# Altium footprint library SOT65P210X110-5N.PCBLIB: 1 footprints
Each footprint in its own frame and in the unit in brackets; x right, y up, seen from the top. Pads: shape width x height; smd on the part's side, far side on the other; paste and mask are expansions set on the pad; w line width, h text height; cw(c..) or ccw(c..) is an arc to the next point about the centre after c.
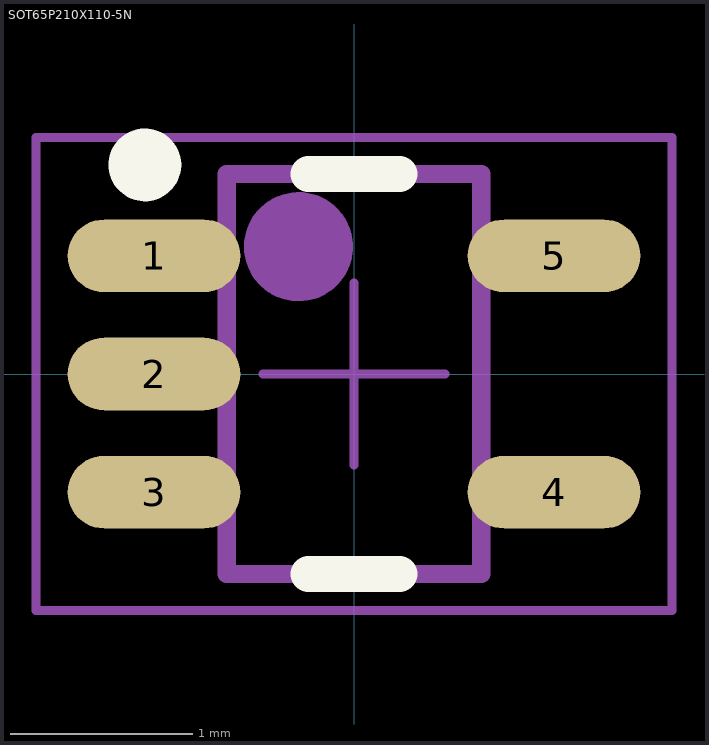
[diagram p0: the footprint, top view; thin cyan lines are the x and y axes]

## SOT65P210X110-5N [mm]
height 1.1
pads (5):
  oval 0.95x0.4 smd: 1(-1.1,0.65) 2(-1.1,0) 3(-1.1,-0.65) 4(1.1,-0.65) 5(1.1,0.65)
Top Overlay:
  circle w0.2: c-1.15,1.15 r0.1
  lines w0.2: -0.25,-1.1 0.25,-1.1 ; -0.25,1.1 0.25,1.1
Top Assembly:
  circle w0.3: c-0.305,0.7 r0.15
  lines w0.1: -0.7,-1.1 -0.7,1.1 0.7,1.1 0.7,-1.1 -0.7,-1.1
Top Courtyard:
  lines w0.05: -1.75,-1.3 -1.75,1.3 1.75,1.3 1.75,-1.3 -1.75,-1.3
Top Designator:
  text ".Designator" at -4.4,1.7 h1
Top Component Center:
  lines w0.05: -0.5,0 0.5,0 ; 0,-0.5 0,0.5
3D body "User Library-SOT353-1.STEP": height 1.1, standoff 0, extent -1.2,-1.1 1.2,1.1